# EAGLE library part XCS10/84 (library Xilinx)
Xilinx Spartan XCS10 FPGA
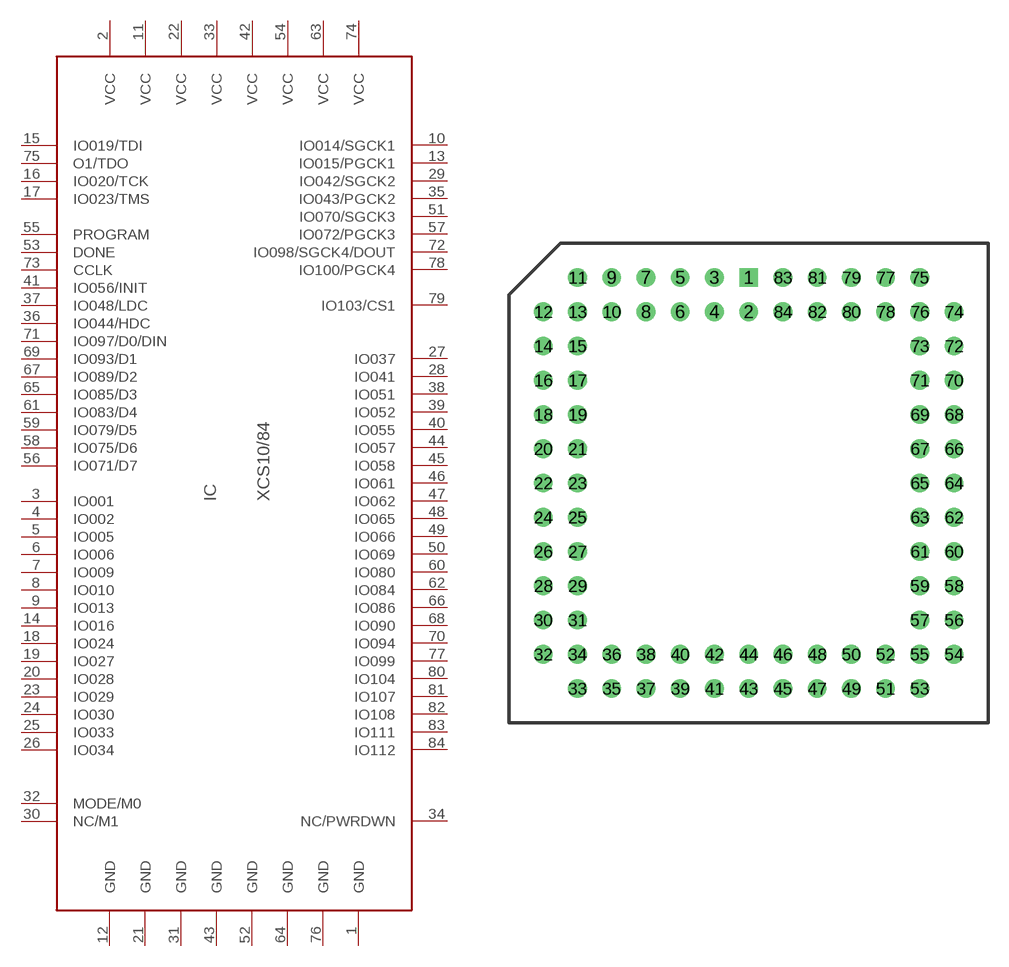
[diagram p4: symbol with the pads of PLCC-84T; footprint PLCC-84T]

Designator prefix IC

## XCS10/84-PC84  [PLCC-84T]
1  GND  pwr
2  VCC  pwr
3  IO001
4  IO002
5  IO005
6  IO006
7  IO009
8  IO010
9  IO013
10  IO014/SGCK1
11  VCC  pwr
12  GND  pwr
13  IO015/PGCK1
14  IO016
15  IO019/TDI
16  IO020/TCK
17  IO023/TMS
18  IO024
19  IO027
20  IO028
21  GND  pwr
22  VCC  pwr
23  IO029
24  IO030
25  IO033
26  IO034
27  IO037
28  IO041
29  IO042/SGCK2
30  NC/M1
31  GND  pwr
32  MODE/M0
33  VCC  pwr
34  NC/PWRDWN
35  IO043/PGCK2
36  IO044/HDC
37  IO048/LDC
38  IO051
39  IO052
40  IO055
41  IO056/INIT
42  VCC  pwr
43  GND  pwr
44  IO057
45  IO058
46  IO061
47  IO062
48  IO065
49  IO066
50  IO069
51  IO070/SGCK3
52  GND  pwr
53  DONE
54  VCC  pwr
55  PROGRAM
56  IO071/D7
57  IO072/PGCK3
58  IO075/D6
59  IO079/D5
60  IO080
61  IO083/D4
62  IO084
63  VCC  pwr
64  GND  pwr
65  IO085/D3
66  IO086
67  IO089/D2
68  IO090
69  IO093/D1
70  IO094
71  IO097/D0/DIN
72  IO098/SGCK4/DOUT
73  CCLK
74  VCC  pwr
75  O1/TDO
76  GND  pwr
77  IO099
78  IO100/PGCK4
79  IO103/CS1
80  IO104
81  IO107
82  IO108
83  IO111
84  IO112

## Footprint PLCC-84T (pad centres in mm)
84 pin PLCC through hole socket
drill 0.889 square: 1 0,15.24
drill 0.889 round: 2 0,12.7; 3 -2.54,15.24; 4 -2.54,12.7; 5 -5.08,15.24; 6 -5.08,12.7; 7 -7.62,15.24; 8 -7.62,12.7; 9 -10.16,15.24; 10 -10.16,12.7; 11 -12.7,15.24; 12 -15.24,12.7; 13 -12.7,12.7; 14 -15.24,10.16; 15 -12.7,10.16; 16 -15.24,7.62; 17 -12.7,7.62; 18 -15.24,5.08; 19 -12.7,5.08; 20 -15.24,2.54; 21 -12.7,2.54; 22 -15.24,0; 23 -12.7,0; 24 -15.24,-2.54; 25 -12.7,-2.54; 26 -15.24,-5.08; 27 -12.7,-5.08; 28 -15.24,-7.62; 29 -12.7,-7.62; 30 -15.24,-10.16; 31 -12.7,-10.16; 32 -15.24,-12.7; 33 -12.7,-15.24; 34 -12.7,-12.7; 35 -10.16,-15.24; 36 -10.16,-12.7; 37 -7.62,-15.24; 38 -7.62,-12.7; 39 -5.08,-15.24; 40 -5.08,-12.7; 41 -2.54,-15.24; 42 -2.54,-12.7; 43 0,-15.24; 44 0,-12.7; 45 2.54,-15.24; 46 2.54,-12.7; 47 5.08,-15.24; 48 5.08,-12.7; 49 7.62,-15.24; 50 7.62,-12.7; 51 10.16,-15.24; 52 10.16,-12.7; 53 12.7,-15.24; 54 15.24,-12.7; 55 12.7,-12.7; 56 15.24,-10.16; 57 12.7,-10.16; 58 15.24,-7.62; 59 12.7,-7.62; 60 15.24,-5.08; 61 12.7,-5.08; 62 15.24,-2.54; 63 12.7,-2.54; 64 15.24,0; 65 12.7,0; 66 15.24,2.54; 67 12.7,2.54; 68 15.24,5.08; 69 12.7,5.08; 70 15.24,7.62; 71 12.7,7.62; 72 15.24,10.16; 73 12.7,10.16; 74 15.24,12.7; 75 12.7,15.24; 76 12.7,12.7; 77 10.16,15.24; 78 10.16,12.7; 79 7.62,15.24; 80 7.62,12.7; 81 5.08,15.24; 82 5.08,12.7; 83 2.54,15.24; 84 2.54,12.7